# Altium schematic symbol library MCP2200_UART_USB.schlib: 6 symbols
Pins are listed as number, name and electrical type; pins without a type are passive.

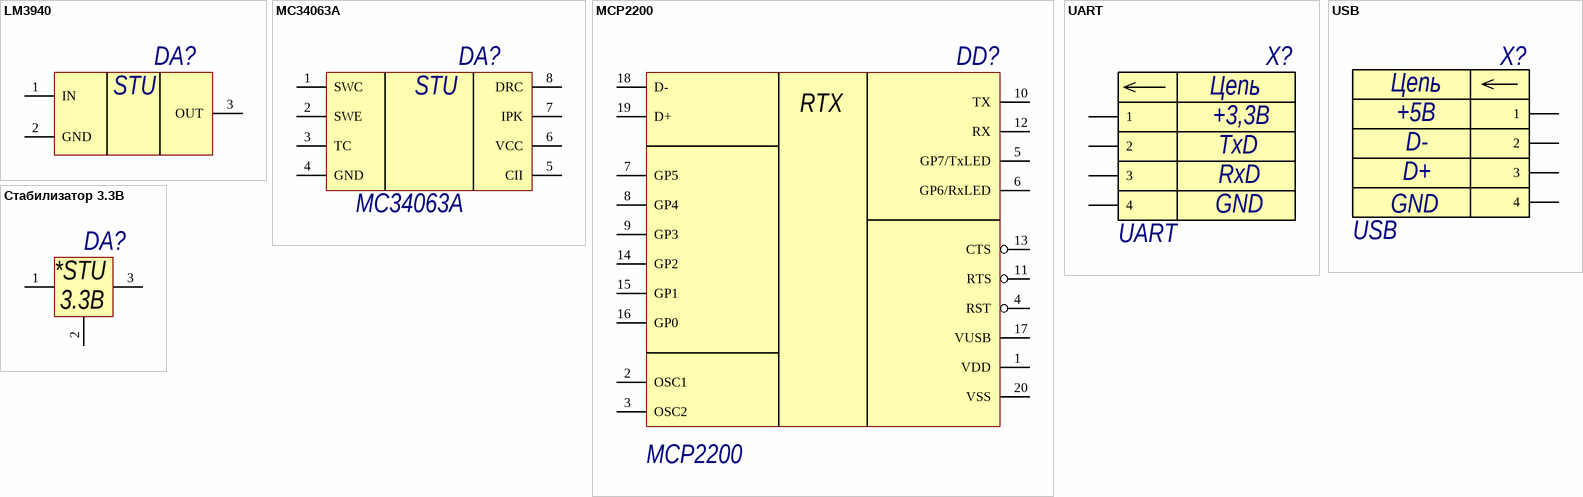
[diagram p0: symbols LM3940 to Стабилизатор 3.3В]

## LM3940
designator DA?  (value not drawn)
footprint SOT95P255X145-3N
pins: 1 IN, 2 GND, 3 OUT
text: STU

## MC34063A
designator DA?
footprint PCBComponent_1
pins: 1 SWC, 2 SWE, 3 TC, 4 GND, 5 CII, 6 VCC, 7 IPK, 8 DRC
text: STU

## MCP2200
designator DD?  WTF: RTX
Create: Litvinov
footprint SOP65P780X200-20N
pins: 1 VDD, 2 OSC1, 3 OSC2, 4 RST, 5 GP7/TxLED, 6 GP6/RxLED, 7 GP5, 8 GP4, 9 GP3, 10 TX, 11 RTS, 12 RX, 13 CTS, 14 GP2, 15 GP1, 16 GP0, 17 VUSB, 18 D-, 19 D+, 20 VSS

## UART
designator X?  In: TxD  Out: RxD  U: +3,3В
Create: Litvinov; GND: GND
footprint UART (Footprint not found)
pins: 1, 2, 3, 4
text: Цепь

## USB
designator X?  U: +5В  Out: D-  In: D+
Create: DeathSpeaker; GND: GND
footprint USB (Footprint not found)
pins: 1, 2, 3, 4
text: Цепь

## Стабилизатор 3.3В
designator DA?, comment *STU  OutU: 3.3В
InU: 3.9...12В; Power: 0.3Вт; OutI: 300мА
footprint 4601.3-1
pins: 1 In, 2 GND, 3 Out